# EAGLE library part BQ24195 (library isystems)
TI I2C Controlled 2.5A/4.5A Single Cell USB/Adaptor Charger with 5.1V 1.3A/2.1A Synchronous Boost Operation High Efficiency Switch Mode Charger 2.5A(bq24195L) or 4.5A(bq24195) Fast Charging 92% Charge Efficiency at 2A, 90% at 4A Synchronous Boost Converter in Battery Boost Mode 5.1V at 1A (bq24195L) or 5.1V at 2.1A (bq24195) Operating free-air temperature range: -40 to 85 °C http://www.ti.com/lit/ds/symlink/bq24195.pdf
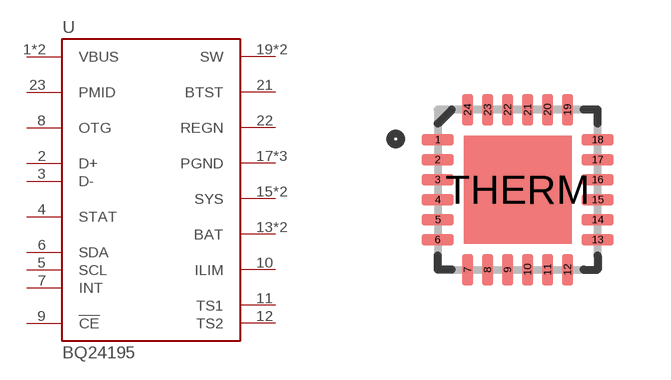
[diagram p8: symbol with the pads of QFN24_4MM_EXPPAD; footprint QFN24_4MM_EXPPAD]

Designator prefix U

## BQ24195  [QFN24_4MM_EXPPAD]
1  VBUS  pwr
2  D+  in
3  D-  in
4  STAT  out
5  SCL  in
6  SDA
7  INT  out
8  OTG  in
9  !CE  in
10  ILIM  in
11  TS1  in
12  TS2  in
13  BAT  pwr
14  BAT  pwr
15  SYS  pwr
16  SYS  pwr
17  PGND  pwr
18  PGND  pwr
19  SW  out
20  SW  out
21  BTST  pwr
22  REGN  pwr
23  PMID  pwr
24  VBUS  pwr
THERM  PGND  pwr

## Footprint QFN24_4MM_EXPPAD (pad centres in mm)
smd 0.8 x 0.28: 1 -2,1.25; 2 -2,0.75; 3 -2,0.25; 4 -2,-0.25; 5 -2,-0.75; 6 -2,-1.25; 13 2,-1.25; 14 2,-0.75; 15 2,-0.25; 16 2,0.25; 17 2,0.75; 18 2,1.25
smd 0.28 x 0.8: 7 -1.25,-2; 8 -0.75,-2; 9 -0.25,-2; 10 0.25,-2; 11 0.75,-2; 12 1.25,-2; 19 1.25,2; 20 0.75,2; 21 0.25,2; 22 -0.25,2; 23 -0.75,2; 24 -1.25,2
smd 2.7 x 2.7: THERM 0,0